# Altium schematic symbol library RBR-RAMON.SchLib: 16 symbols
Pins are listed as number, name and electrical type; pins without a type are passive.

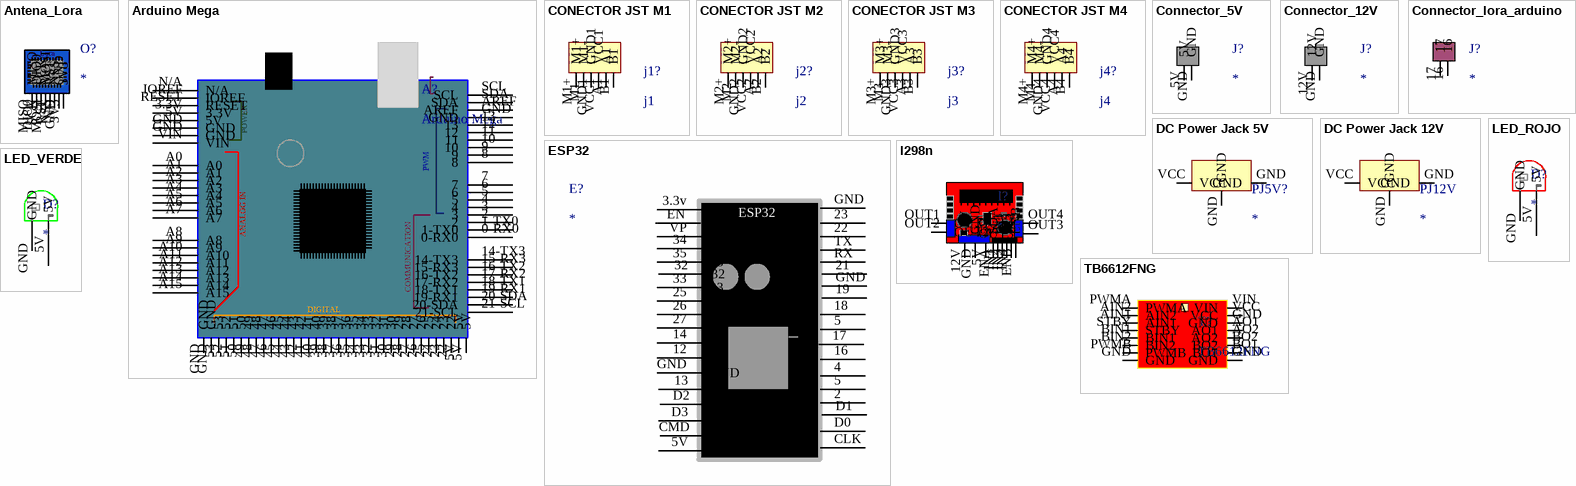
[diagram p0: symbols Antena_Lora to TB6612FNG]

## Antena_Lora
designator O?
pins: 3V3, DIO0, GND, MISO, MOSI, NSS, RST, SCK
text: Lora

## Arduino Mega
designator A?
footprint Arduino Mega
pins: 0-RX0, 1-TX0, 2, 3, 3.3V, 4, 5, 5V, 5V, 5V, 6, 7, 8, 9, 10, 11, 12, 13, 14-TX3, 15-RX3, 16-TX2, 17-RX2, 18-TX1, 19-RX1, 20-SDA, 21-SCL, 22, 23, 24, 25, 26, 27, 28, 29, 30, 31, 32, 33, 34, 35, 36, 37, 38, 39, 40, 41, 42, 43, 44, 45, 46, 47, 48, 49, 50, 51, 52, 53, A0, A1, A2, A3, A4, A5, A6, A7, A8, A9, A10, A11, A12, A13, A14, A15, AREF, GND, GND, GND, GND, GND, IOREF, N/A, RESET, SCL, SDA, VIN
text: POWER; PWM; ANALOG IN; COMMUNICATION; DIGITAL

## CONECTOR JST M1
designator j1?, comment j1
footprint CONECTOR JST M1
pins: A1, B1, GND1, M1+, M1-, VCC1

## CONECTOR JST M2
designator j2?, comment j2
footprint CONECTOR JST M2
pins: A2, B2, GND2, M2+, M2-, VCC2

## CONECTOR JST M3
designator j3?, comment j3
footprint CONECTOR JST M3
pins: A3, B3, GND3, M3+, M3-, VCC3

## CONECTOR JST M4
designator j4?, comment j4
footprint CONECTOR JST M4
pins: A4, B4, GND4, M4+, M4-, VCC4

## Connector_5V
designator J?
footprint Conector_5V
pins: 5V, GND

## Connector_12V
designator J?
footprint Conector_12V
pins: 12V, GND

## Connector_lora_arduino
designator J?
footprint Conector_lora_arduino
pins: 16, 17

## DC Power Jack 5V
designator PJ5V?
footprint DC Power Jack5V
pins: GND, GND, VCC

## DC Power Jack 12V
designator PJ12V
footprint DC Power Jack12V
pins: GND, GND, VCC

## ESP32
designator E?
pins: 2, 3.3v, 4, 5, 5, 5V, 12, 13, 14, 16, 17, 18, 19, 21, 22, 23, 25, 26, 27, 32, 33, 34, 35, CLK, CMD, D0, D1, D2, D3, EN, GND, GND, GND, RX, TX, VP

## l298n
designator l?
footprint L298N_Conectores
pins: 5V, 12V, ENA SDA, ENB, GND, IN1, IN2, IN3, IN4, OUT1, OUT2, OUT3, OUT4

## LED_ROJO
designator D?
pins: 5V, GND

## LED_VERDE
designator D?
pins: 5V, GND

## TB6612FNG
designator T?
footprint TB6611FNG
pins: AIN1, AIN2, AO1, AO2, BIN1, BIN2, BO1, BO2, GND, GND, GND, PWMA, PWMB, STBY, VCC, VIN